# Altium schematic symbol library ADC.SchLib: 12 symbols
Pins are listed as number, name and electrical type; pins without a type are passive.

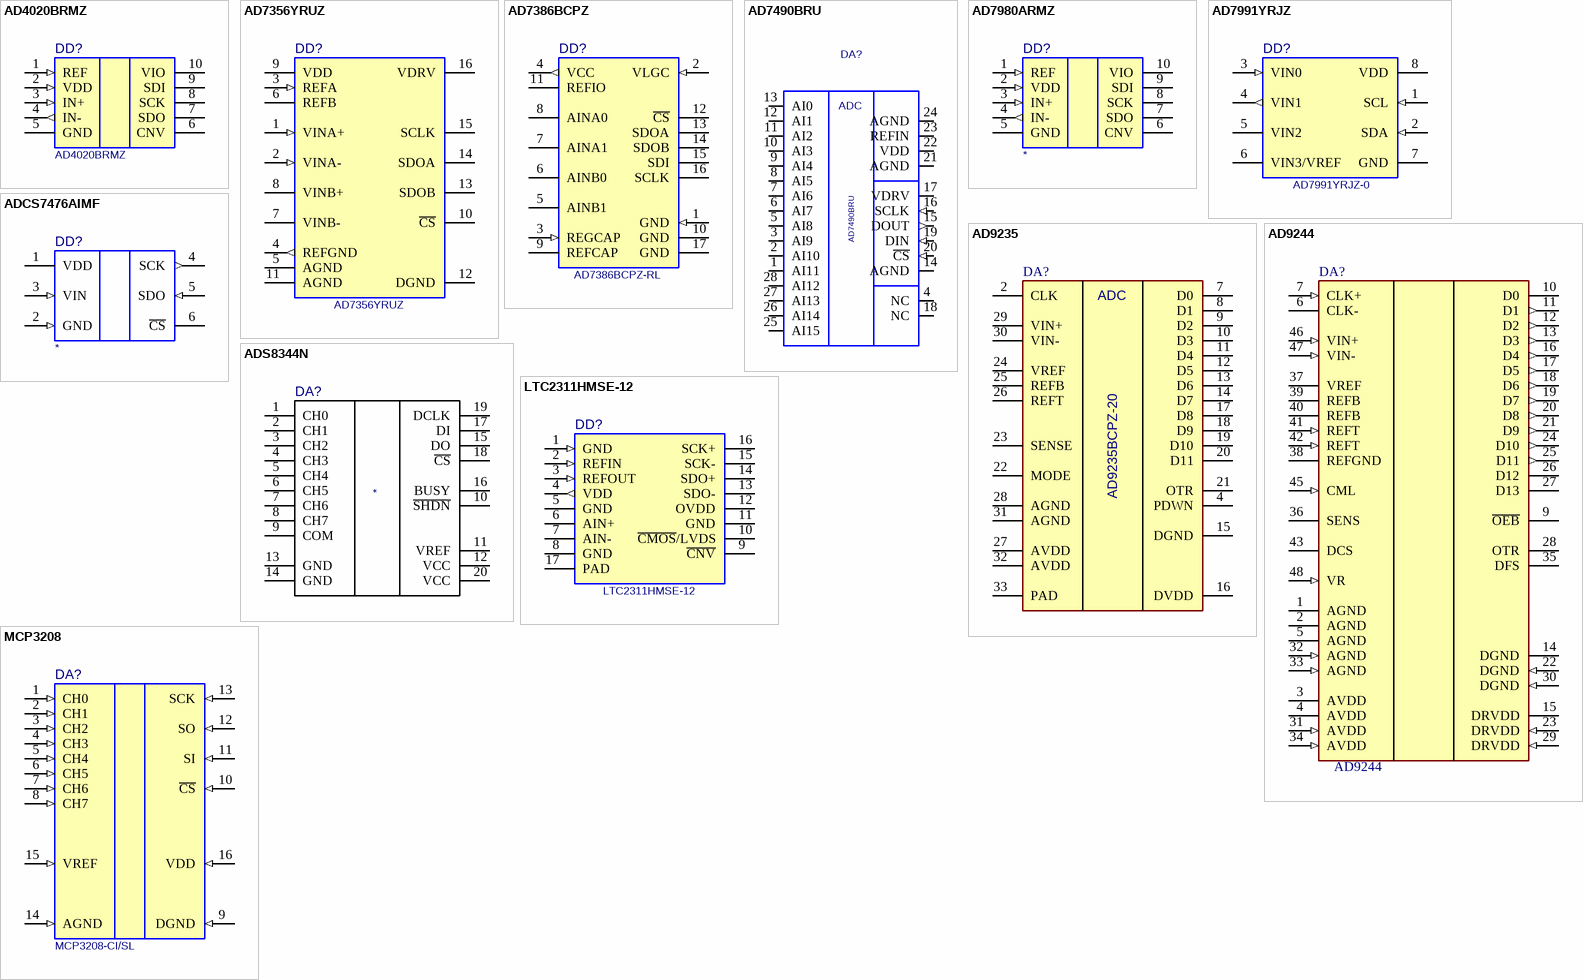
[diagram p0: symbols AD4020BRMZ to MCP3208]

## AD4020BRMZ
designator DD?
20-Bit, 1.8 MSPS, Easy Drive, Differential SAR ADCs
footprint MSOP10 (MO-187-BA)
pins: 1 REF (in), 2 VDD (in), 3 IN+ (in), 4 IN- (out), 5 GND (power), 6 CNV (power), 7 SDO (power), 8 SCK (power), 9 SDI (power), 10 VIO (power)

## AD7356YRUZ
designator DD?
Differential Input, Dual, Simultaneous Sampling, 5 MSPS, 12-Bit, SAR ADC
footprint TSSOP16 (JEDEC MO-153)
pins: 1 VINA+ (in), 2 VINA- (in), 3 REFA (in), 4 REFGND (out), 5 AGND (power), 6 REFB (power), 7 VINB- (power), 8 VINB+ (power), 9 VDD (power), 10 ~{CS} (power), 11 AGND (power), 12 DGND (power), 13 SDOB (power), 14 SDOA (power), 15 SCLK (power), 16 VDRV (power)

## AD7386BCPZ
designator DD?, comment AD7386BCPZ-RL
4-Channel, 4 MSPS, 16-Bit, Dual, Simultaneous Sampling SAR ADCs
footprint LFCSP16 (CP-16-45) MO-220-WEED-4
pins: 1 GND (in), 2 VLGC (in), 3 REGCAP (in), 4 VCC (out), 5 AINB1 (power), 6 AINB0 (power), 7 AINA1 (power), 8 AINA0 (power), 9 REFCAP (power), 10 GND (power), 11 REFIO (power), 12 ~{CS} (power), 13 SDOA (power), 14 SDOB (power), 15 SDI (power), 16 SCLK (power), 17 GND (power)

## AD7490BRU
designator DA?
16-Channel, 1 MSPS, 12-Bit ADC with Sequencer in 28-Lead TSSOP; Value: *
footprint TSSOP28 (JEDEC MO-153)
pins: 1 AI11, 2 AI10, 3 AI9, 4 NC, 5 AI8, 6 AI7, 7 AI6, 8 AI5, 9 AI4, 10 AI3, 11 AI2, 12 AI1, 13 AI0, 14 AGND (power), 15 DOUT (out), 16 SCLK (in), 17 VDRV (power), 18 NC, 19 DIN (in), 20 ~{CS} (in), 21 AGND (power), 22 VDD (power), 23 REFIN (power), 24 AGND (power), 25 AI15, 26 AI14, 27 AI13, 28 AI12
text: ADC

## AD7980ARMZ
designator DD?
16-Bit, 1 MSPS PulSAR ADC in MSOP/QFN
footprint MSOP10 (MO-187-BA)
pins: 1 REF (in), 2 VDD (in), 3 IN+ (in), 4 IN- (out), 5 GND (power), 6 CNV (power), 7 SDO (power), 8 SCK (power), 9 SDI (power), 10 VIO (power)

## AD7991YRJZ
designator DD?, comment AD7991YRJZ-0
4-Channel, 12-Bit ADC with I2C-Compatible Interface in 8-Lead SOT-23
footprint SOT23-8 (RJ-8)
pins: 1 SCL (in), 2 SDA (in), 3 VIN0 (in), 4 VIN1 (out), 5 VIN2 (power), 6 VIN3/VREF (power), 7 GND (power), 8 VDD (power)

## AD9235
designator DA?, comment AD9235BCPZ-20
12-Bit, 20/40/65 MSPS 3 V A/D Converter
footprint LFCSP32 (CP-32-7) MO-220-WHHD
pins: 2 CLK, 4 PDWN, 7 D0, 8 D1, 9 D2, 10 D3, 11 D4, 12 D5, 13 D6, 14 D7, 15 DGND, 16 DVDD, 17 D8, 18 D9, 19 D10, 20 D11, 21 OTR, 22 MODE, 23 SENSE, 24 VREF, 25 REFB, 26 REFT, 27 AVDD, 28 AGND, 29 VIN+, 30 VIN-, 31 AGND, 32 AVDD, 33 PAD
text: ADC

## AD9244
designator DA?
Complete 14-Bit, 40 MSPS/65 MSPS A/D Converter
footprint LQFP48_VBH48A
pins: 1 AGND (power), 2 AGND (power), 3 AVDD (power), 4 AVDD (power), 5 AGND, 6 CLK- (power), 7 CLK+ (in), 9 ~{OEB}, 10 D0, 11 D1 (out), 12 D2 (out), 13 D3 (out), 14 DGND, 15 DRVDD, 16 D4 (out), 17 D5 (out), 18 D6 (out), 19 D7 (out), 20 D8 (out), 21 D9 (out), 22 DGND (in), 23 DRVDD (in), 24 D10 (out), 25 D11 (out), 26 D12, 27 D13, 28 OTR (power), 29 DRVDD (in), 30 DGND (in), 31 AVDD (in), 32 AGND (in), 33 AGND (in), 34 AVDD (in), 35 DFS, 36 SENS, 37 VREF, 38 REFGND, 39 REFB (power), 40 REFB, 41 REFT (in), 42 REFT (in), 43 DCS, 45 CML (in), 46 VIN+ (in), 47 VIN- (in), 48 VR (in)

## ADCS7476AIMF
designator DD?
1MSPS, 12-/10-/8-Bit A/D Converters in SOT-23 & WSON
footprint SOT23-6  (SOT457) (SC-74)
pins: 1 VDD (power), 2 GND (in), 3 VIN (in), 4 SCK (out), 5 SDO (in), 6 ~{CS} (power)

## ADS8344N
designator DA?
16-Bit, 8-Channel Serial Output Sampling ANALOG-TO-DIGITAL CONVERTER
footprint SSOP-20 (MO-150)
pins: 1 CH0, 2 CH1, 3 CH2, 4 CH3, 5 CH4, 6 CH5, 7 CH6, 8 CH7, 9 COM, 10 ~{SHDN}, 11 VREF, 12 VCC, 13 GND, 14 GND, 15 DO, 16 BUSY, 17 DI, 18 ~{CS}, 19 DCLK, 20 VCC

## LTC2311HMSE-12
designator DD?
12-Bit + Sign, 5Msps Differential Input ADC with Wide Input Common Mode Range
footprint MSOP16 POWERPAD (MSE Package (Reference LTC DWG # 05-08-1667 Rev F))
pins: 1 GND (in), 2 REFIN (in), 3 REFOUT (in), 4 VDD (out), 5 GND (power), 6 AIN+ (power), 7 AIN- (power), 8 GND (power), 9 ~{CNV} (power), 10 ~{CMOS}/LVDS (power), 11 GND (power), 12 OVDD (power), 13 SDO- (power), 14 SDO+ (power), 15 SCK- (power), 16 SCK+ (power), 17 PAD (power)

## MCP3208
designator DA?, comment MCP3208-CI/SL
8-Channel 12-Bit A/D Converter with SPI™   Serial Interface
footprint SOIC16
signal-integrity model Model Name (Model Description)
pins: 1 CH0 (in), 2 CH1 (in), 3 CH2 (in), 4 CH3 (in), 5 CH4 (in), 6 CH5 (in), 7 CH6 (in), 8 CH7 (in), 9 DGND (in), 10 ~{CS} (in), 11 SI (in), 12 SO (in), 13 SCK (in), 14 AGND (in), 15 VREF (in), 16 VDD (in)